# EAGLE library part 74132FK (library EW_IC_74_Logic)
2-input positive nand gate. Category: Gates Manufacturer: Texas Instruments
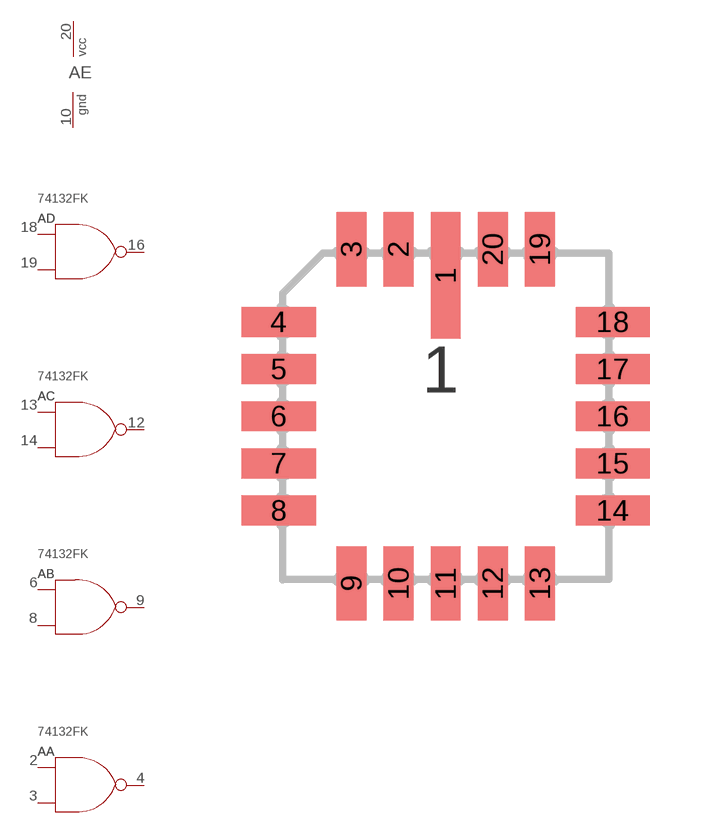
[diagram p389: symbol with the pads of LCC-20; footprint LCC-20]

Designator prefix A; gates A=NAND_2 B=NAND_2 C=NAND_2 D=NAND_2 E=PWRN

## 74132FK  [LCC-20]
2  A:A  pwr
3  A:B  pwr
4  A:Y  pwr
6  B:A  pwr
8  B:B  pwr
9  B:Y  pwr
10  E:GND  pwr
12  C:Y  pwr
13  C:A  pwr
14  C:B  pwr
16  D:Y  pwr
18  D:A  pwr
19  D:B  pwr
20  E:VCC  pwr

## Footprint LCC-20 (pad centres in mm)
LEADLESS CERAMIC CHIP CARRIER
smd 0.8 x 3.4: 1 0,3.8
smd 0.8 x 2: 2 -1.27,4.5; 3 -2.54,4.5; 9 -2.54,-4.5; 10 -1.27,-4.5; 11 0,-4.5; 12 1.27,-4.5; 13 2.54,-4.5; 19 2.54,4.5; 20 1.27,4.5
smd 2 x 0.8: 4 -4.5,2.54; 5 -4.5,1.27; 6 -4.5,0; 7 -4.5,-1.27; 8 -4.5,-2.54; 14 4.5,-2.54; 15 4.5,-1.27; 16 4.5,0; 17 4.5,1.27; 18 4.5,2.54